# EAGLE library part MAX2870 (library drom)
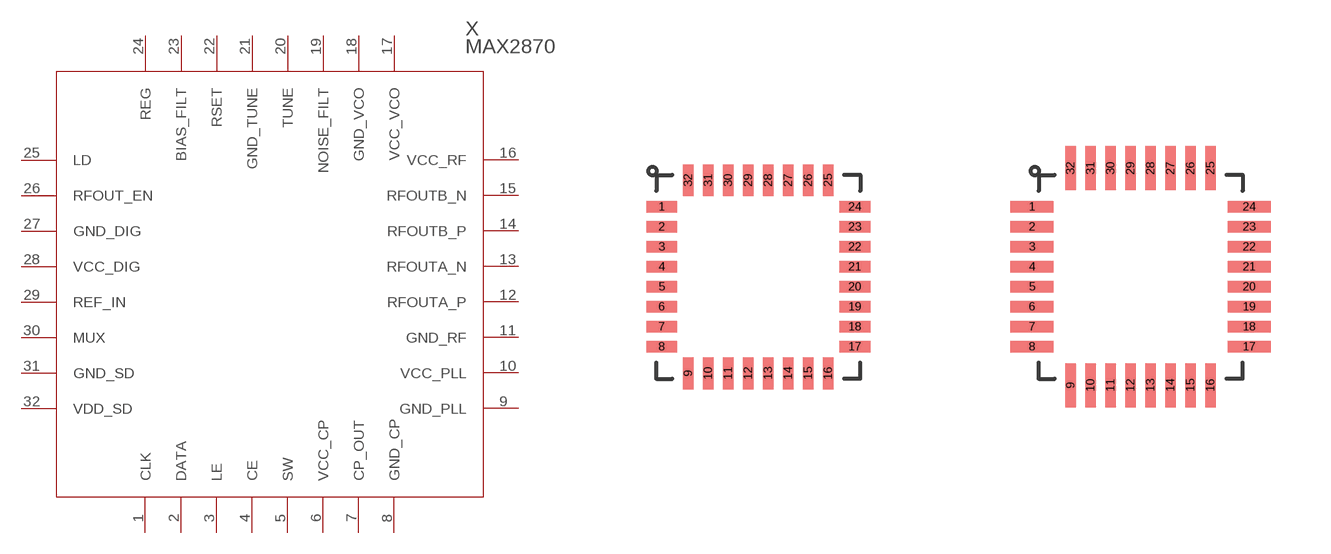
[diagram p10: symbol with the pads of TQFN-32; footprints TQFN-32, TQFN-32-EXTRA]

Designator prefix X

## MAX2870TQFN-32  [TQFN-32]
1  CLK
2  DATA
3  LE
4  CE  pwr
5  SW  pas
6  VCC_CP  pwr
7  CP_OUT
8  GND_CP  pwr
9  GND_PLL  pwr
10  VCC_PLL  pwr
11  GND_RF  pwr
12  RFOUTA_P  pwr
13  RFOUTA_N  pas
14  RFOUTB_P
15  RFOUTB_N
16  VCC_RF  pwr
17  VCC_VCO  pwr
18  GND_VCO  pwr
19  NOISE_FILT
20  TUNE  pas
21  GND_TUNE  pwr
22  RSET
23  BIAS_FILT
24  REG
25  LD
26  RFOUT_EN
27  GND_DIG  pwr
28  VCC_DIG  pwr
29  REF_IN
30  MUX
31  GND_SD  pwr
32  VDD_SD  pwr

## MAX2870TQFN-32-EXTRA  [TQFN-32-EXTRA]
Pads as for TQFN-32

## Footprint TQFN-32 (pad centres in mm)
TQFN-32
smd 0.8 x 0.3: 1 -2.415,1.75; 2 -2.415,1.25; 3 -2.415,0.75; 4 -2.415,0.25; 5 -2.415,-0.25; 6 -2.415,-0.75; 7 -2.415,-1.25; 8 -2.415,-1.75; 17 2.415,-1.75; 18 2.415,-1.25; 19 2.415,-0.75; 20 2.415,-0.25; 21 2.415,0.25; 22 2.415,0.75; 23 2.415,1.25; 24 2.415,1.75
smd 0.3 x 0.8: 9 -1.75,-2.415; 10 -1.25,-2.415; 11 -0.75,-2.415; 12 -0.25,-2.415; 13 0.25,-2.415; 14 0.75,-2.415; 15 1.25,-2.415; 16 1.75,-2.415; 25 1.75,2.415; 26 1.25,2.415; 27 0.75,2.415; 28 0.25,2.415; 29 -0.25,2.415; 30 -0.75,2.415; 31 -1.25,2.415; 32 -1.75,2.415

## Footprint TQFN-32-EXTRA (pad centres in mm)
TQFN-32 EXTRA PADS
smd 1.1 x 0.3: 1 -2.715,1.75; 2 -2.715,1.25; 3 -2.715,0.75; 4 -2.715,0.25; 5 -2.715,-0.25; 6 -2.715,-0.75; 7 -2.715,-1.25; 8 -2.715,-1.75; 17 2.715,-1.75; 18 2.715,-1.25; 19 2.715,-0.75; 20 2.715,-0.25; 21 2.715,0.25; 22 2.715,0.75; 23 2.715,1.25; 24 2.715,1.75
smd 0.3 x 1.1: 9 -1.75,-2.715; 10 -1.25,-2.715; 11 -0.75,-2.715; 12 -0.25,-2.715; 13 0.25,-2.715; 14 0.75,-2.715; 15 1.25,-2.715; 16 1.75,-2.715; 25 1.75,2.715; 26 1.25,2.715; 27 0.75,2.715; 28 0.25,2.715; 29 -0.25,2.715; 30 -0.75,2.715; 31 -1.25,2.715; 32 -1.75,2.715